# Altium integrated library Rosenberger RoDI.IntLib: 2 symbols
Pins are listed as number, name and electrical type; pins without a type are passive.

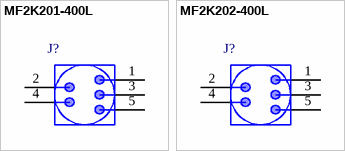
[diagram p0: symbols MF2K201-400L to MF2K202-400L]

## MF2K201-400L
designator J?
Industrial IO Right Angle Jack, Edge Mount, Sealed, Magnetic Lock, Black, -25 to 75 degC; PartNumber: MF2K201-400L; Design Note: Footprint in library is a generic example - only application specific footprint delivers High Performance; DatasheetVersion: 600; PackageVersion: 600; PackageReference: MF2K201-400L; PackageDescription: Industrial IO, Right Angle Jack, Edge Mount, 27.597 x 23.2 x 15.7 mm; Mounting Technology: Through Hole; ComponentLink1Description: Manufacturer URL; ComponentLink1URL: http://www.rosenberger.de; ComponentLink2Description: Datasheet; ComponentLink2URL: http://rosenberger.de/ok/images/documents/db/MF2K201-400L.pdf; ComponentLink3Description: Package Specification; ComponentLink3URL: http://rosenberger.de/ok/images/documents/db/MF2K201-400L.pdf; ComponentLink4Description: Webshop / RFQ; ComponentLink4URL: http://www.rosenberger.com/en/contact/sales/
footprint ROS-MF2K201-400L_V (Industrial IO, Right Angle Jack, Edge Mount, 27.597x23.2x15.7mm, Rosenberger Recommended)
pins: 1, 2, 3, 4, 5

## MF2K202-400L
designator J?
Industrial IO Right Angle Jack, Edge Mount, Sealed, Magnetic Lock, Grey, -25 to 75 degC; PartNumber: MF2K202-400L; Design Note: Footprint in library is a generic example - only application specific footprint delivers High Performance; DatasheetVersion: 600; PackageVersion: 600; PackageReference: MF2K202-400L; PackageDescription: Industrial IO, Right Angle Jack, Edge Mount, 27.597 x 23.2 x 15.7 mm; Mounting Technology: Through Hole; ComponentLink1Description: Manufacturer URL; ComponentLink1URL: http://www.rosenberger.de; ComponentLink2Description: Datasheet; ComponentLink2URL: http://rosenberger.de/ok/images/documents/db/MF2K202-400L.pdf; ComponentLink3Description: Package Specification; ComponentLink3URL: http://rosenberger.de/ok/images/documents/db/MF2K202-400L.pdf; ComponentLink4Description: Webshop / RFQ; ComponentLink4URL: http://www.rosenberger.com/en/contact/sales/
footprint ROS-MF2K202-400L_V (Industrial IO, Right Angle Jack, Edge Mount, 27.597x23.2x15.7mm, Rosenberger Recommended)
pins: 1, 2, 3, 4, 5